# Altium footprint library Aluminum Electrolytic Capacitors SMD.PcbLib: 3 footprints
Each footprint in its own frame and in the unit in brackets; x right, y up, seen from the top. Pads: shape width x height; smd on the part's side, far side on the other; paste and mask are expansions set on the pad; w line width, h text height; cw(c..) or ccw(c..) is an arc to the next point about the centre after c.
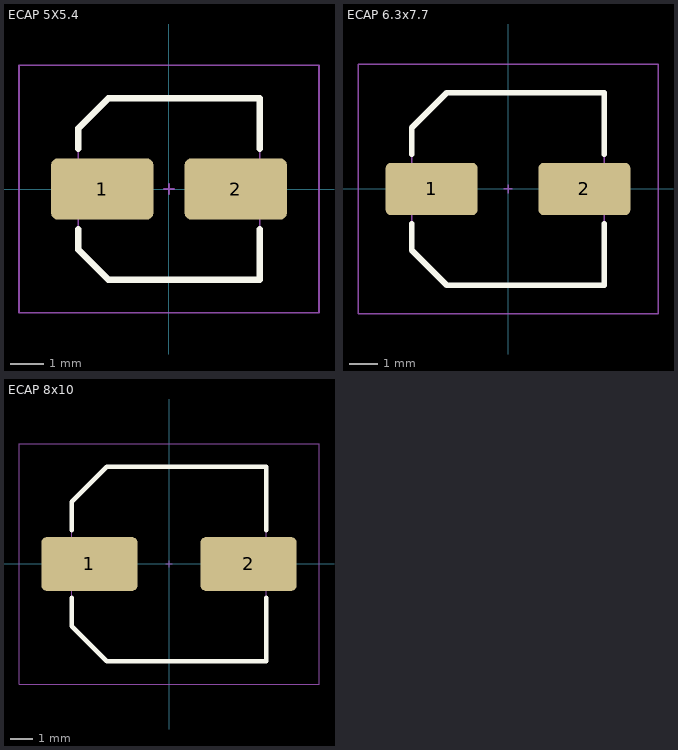
[diagram p0: the footprints below, top view; thin cyan lines are the x and y axes]

## ECAP 5X5.4 [mm] "Aluminum Electrolytic Capacitor, Body 5,30x5,30x5,50mm, IPC Low Density"
height 5.5
pads (2):
  rrect20% 3.1x1.85 smd mask+0.05: 1(-2.025,0) 2(2.025,0)
Top Overlay:
  lines w0.2: -2.75,-1.225 -2.75,-1.837 -1.837,-2.75 2.75,-2.75 2.75,-1.225 ; -2.75,1.225 -2.75,1.837 -1.837,2.75 2.75,2.75 2.75,1.225
Top Assembly:
  lines w0.05: -2.75,-1.837 -1.837,-2.75 2.75,-2.75 2.75,2.75 -1.837,2.75 -2.75,1.837 -2.75,-1.837
Top Courtyard:
  lines w0.05: -4.55,-3.75 -4.55,3.75 4.55,3.75 4.55,-3.75 -4.55,-3.75
Top Component Center:
  lines w0.05: -0.15,0 0.15,0 ; 0,-0.15 0,0.15
3D body "ECAP 5X5.4.step": height 5.5, standoff 0, extent -2.75,-2.75 2.75,2.75

## ECAP 6.3x7.7 [mm] "Aluminum Electrolytic Capacitor, Body 6,60x6,60x8,50mm, IPC Low Density"
height 8.5
pads (2):
  rrect20% 3.25x1.85 smd: 1(-2.7,0) 2(2.7,0)
Top Overlay:
  lines w0.2: -3.4,-1.225 -3.4,-2.163 -2.163,-3.4 3.4,-3.4 3.4,-1.225 ; -3.4,1.225 -3.4,2.163 -2.163,3.4 3.4,3.4 3.4,1.225
Top Assembly:
  lines w0.05: -3.4,-2.163 -3.4,2.163 -2.163,3.4 3.4,3.4 3.4,-3.4 -2.163,-3.4 -3.4,-2.163
Top Courtyard:
  lines w0.05: -5.3,-4.4 -5.3,4.4 5.3,4.4 5.3,-4.4 -5.3,-4.4
Top Component Center:
  lines w0.05: -0.15,0 0.15,0 ; 0,-0.15 0,0.15
3D body "ECAP 6.3x7.7.step": height 8.5, standoff 0, extent -3.5,-3.4 3.5,3.4

## ECAP 8x10 [mm] "Aluminum Electrolytic Capacitor, Body 8,30x8,30x10,80mm, IPC Low Density"
height 10.8
pads (2):
  rrect20% 4.2x2.35 smd mask+0.05: 1(-3.475,0) 2(3.475,0)
Top Overlay:
  lines w0.2: -4.25,-1.475 -4.25,-2.713 -2.712,-4.25 4.25,-4.25 4.25,-1.475 ; -4.25,1.475 -4.25,2.712 -2.712,4.25 4.25,4.25 4.25,1.475
Top Assembly:
  lines w0.05: -4.25,-2.713 -2.712,-4.25 4.25,-4.25 4.25,4.25 -2.712,4.25 -4.25,2.712 -4.25,-2.713
Top Courtyard:
  lines w0.05: -6.55,-5.25 -6.55,5.25 6.55,5.25 6.55,-5.25 -6.55,-5.25
Top Component Center:
  lines w0.05: -0.15,0 0.15,0 ; 0,-0.15 0,0.15
3D body "ECAP 8x10.step": height 10.8, standoff 0, extent -4.45,-4.25 4.45,4.25